# Altium footprint library BJT.PcbLib: 2 footprints
Each footprint in its own frame and in the unit in brackets; x right, y up, seen from the top. Pads: shape width x height; smd on the part's side, far side on the other; paste and mask are expansions set on the pad; w line width, h text height; cw(c..) or ccw(c..) is an arc to the next point about the centre after c.
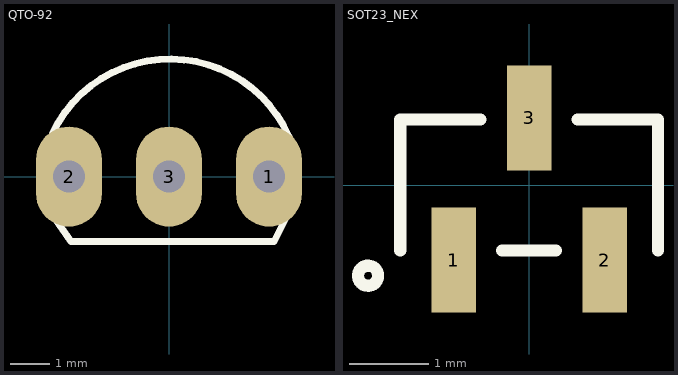
[diagram p0: the footprints below, top view; thin cyan lines are the x and y axes]

## QTO-92 [mil] "TO-92"
height 200
pads (3):
  oval 66x100 hole 32: 1(100,0) 2(-100,0) 3(0,0)
Top Overlay:
  lines w7: -116.52,43.21 cw(c0.97,-12.43) 119.94,39.97 ; -115.34,-40.24 -98,-65 105,-65 118,-39
3D body "SW3dPS-TO92.STEP": height 245.04, standoff -199.79, extent -108.87,-65.56 108.86,95

## SOT23_NEX [mil]
pads (3):
  rect 22x52 smd paste+0 mask+4: 1(-37.5,-37.21) 2(37.5,-37.21) 3(0,33.36)
Top Overlay:
  circle w6: c-80,-45 r5
  lines w6: -64,-32.5 -64,32.5 -24.1,32.5 ; -13.4,-32.5 13.4,-32.5 ; 24.1,32.5 64,32.5 64,-32.5
3D body: height 10, standoff 0, extent 0,0 10,10
3D body "SOT23_NEX.step": height 43.11, standoff 0, extent -59.01,-54.21 59.02,44.22